# Altium schematic symbol library CC2A25.SchLib: 1 symbol
Pins are listed as number, name and electrical type; pins without a type are passive.

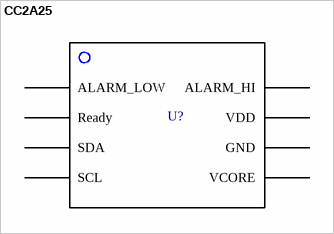
[diagram p0: symbol CC2A25]

## CC2A25
designator U?, comment *SENSOR HUMID/TEMP 5V PDM 2% SMD  (value not drawn)
Manufacturer: Amphenol Telaire; PartNumber: CC2A25; PartDescription: SENSOR HUMID/TEMP 5V PDM 2% SMD; Package Type: 8 SMD; Supplier 1: Digi-Key; Supplier Part Number 1: 235-1333-ND
footprint CC2A25
pins: 1 ALARM_LOW, 2 Ready, 3 SDA, 4 SCL, 5 VCORE, 6 GND, 7 VDD, 8 ALARM_HI